# Altium footprint library WS-DESV.PcbLib: 1 footprints
Each footprint in its own frame and in the unit in brackets; x right, y up, seen from the top. Pads: shape width x height; smd on the part's side, far side on the other; paste and mask are expansions set on the pad; w line width, h text height; cw(c..) or ccw(c..) is an arc to the next point about the centre after c.
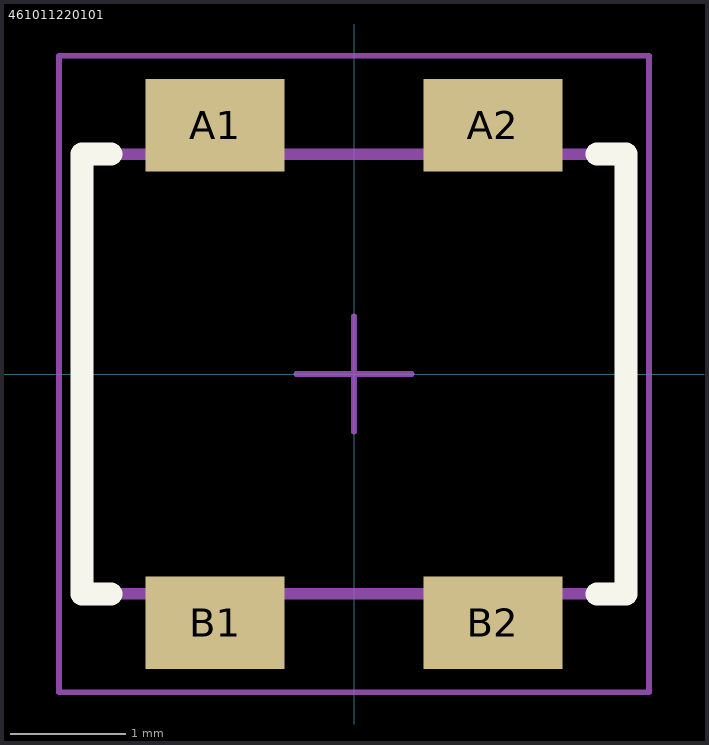
[diagram p0: the footprint, top view; thin cyan lines are the x and y axes]

## 461011220101 [mm] "4.7x3.8 mm SMD Detector Switch"
height 3.8
pads (4):
  rect 1.2x0.8 smd: A1(-1.2,2.15) A2(1.2,2.15) B1(-1.2,-2.15) B2(1.2,-2.15)
Top Overlay:
  lines w0.2: -2.1,-1.9 -2.35,-1.9 -2.35,1.9 -2.1,1.9 ; 2.1,-1.9 2.35,-1.9 2.35,1.9 2.1,1.9
Top Designator:
  text ".Designator" at -5.998,-0.4 h1.2
Top Component Outline:
  lines w0.1: -2.35,-1.9 -2.35,1.9 2.35,1.9 2.35,-1.9 -2.35,-1.9
Top Courtyard:
  lines w0.05: -0.5,0 0.5,0 ; 0,-0.5 0,0.5 ; -2.55,-2.75 -2.55,2.75 2.55,2.75 2.55,-2.75 -2.55,-2.75
3D body "461011220101.stp": height 3.8, standoff 0, extent -2.45,-2.35 2.45,2.35